# EAGLE library part MMA8453Q (library jseng)
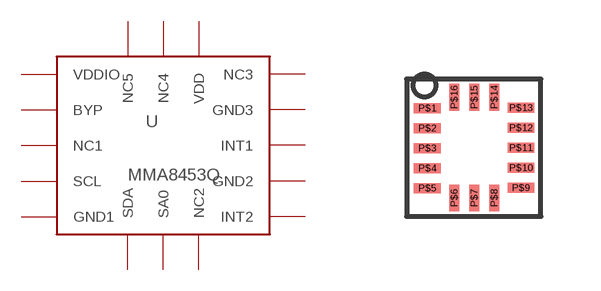
[diagram p7: symbol with the pads of QFN-COL; footprint QFN-COL]

Designator prefix -

## MMA8453Q  [QFN-COL]
P$1  VDDIO
P$2  BYP
P$3  NC1
P$4  SCL
P$5  GND1
P$6  SDA
P$7  SA0
P$8  NC2
P$9  INT2
P$10  GND2
P$11  INT1
P$12  GND3
P$13  NC3
P$14  VDD
P$15  NC4
P$16  NC5

## Footprint QFN-COL (pad centres in mm)
smd 0.67 x 0.25: P$1 -1.17,0.99; P$2 -1.17,0.49; P$3 -1.17,-0.01; P$4 -1.17,-0.51; P$5 -1.17,-1.01; P$9 1.17,-1; P$10 1.17,-0.5; P$11 1.17,0; P$12 1.17,0.5; P$13 1.17,1
smd 0.25 x 0.67: P$6 -0.5,-1.26; P$7 0,-1.26; P$8 0.5,-1.26; P$14 0.5,1.26; P$15 0,1.26; P$16 -0.5,1.26